# EAGLE library part CSD97374Q4M (library TI-Eagle_library)
Synchronous Buck NexFET™ Power Stage,SON- 8
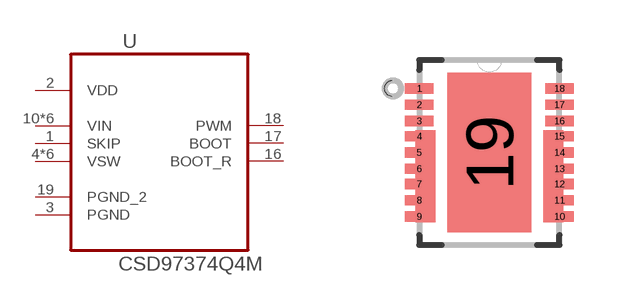
[diagram p12: symbol with the pads of TI_VSON-8_DPC; footprint TI_VSON-8_DPC]

Designator prefix U

## CSD97374Q4M (MPN: CSD97374Q4M; OC_FARNELL: Unknown; OC_NEWARK: 66W8704; PACKAGE: SON- 8; SUPPLIER: TEXAS INSTRUMENTS)  [TI_VSON-8_DPC]
1  SKIP  pas
2  VDD  pwr
3  PGND  pas
4  VSW  out
5  VSW  out
6  VSW  out
7  VSW  out
8  VSW  out
9  VSW  out
10  VIN  in
11  VIN  in
12  VIN  in
13  VIN  in
14  VIN  in
15  VIN  in
16  BOOT_R  pas
17  BOOT  pas
18  PWM  pas
19  PGND_2  pas

## Footprint TI_VSON-8_DPC (pad centres in mm)
smd 0.711 x 0.254: 1 -1.753,1.6; 2 -1.753,1.194; 3 -1.753,0.787; 4 -1.753,0.406; 5 -1.753,0; 6 -1.753,-0.406; 7 -1.753,-0.787; 8 -1.753,-1.194; 9 -1.753,-1.6; 10 1.753,-1.6; 11 1.753,-1.194; 12 1.753,-0.787; 13 1.753,-0.406; 14 1.753,0; 15 1.753,0.406; 16 1.753,0.787; 17 1.753,1.194; 18 1.753,1.6
smd 2.108 x 3.988: 19 0,0